# Altium footprint library DBF.PcbLib: 25 footprints (part 1 of 2)
Each footprint in its own frame and in the unit in brackets; x right, y up, seen from the top. Pads: shape width x height; smd on the part's side, far side on the other; paste and mask are expansions set on the pad; w line width, h text height; cw(c..) or ccw(c..) is an arc to the next point about the centre after c.
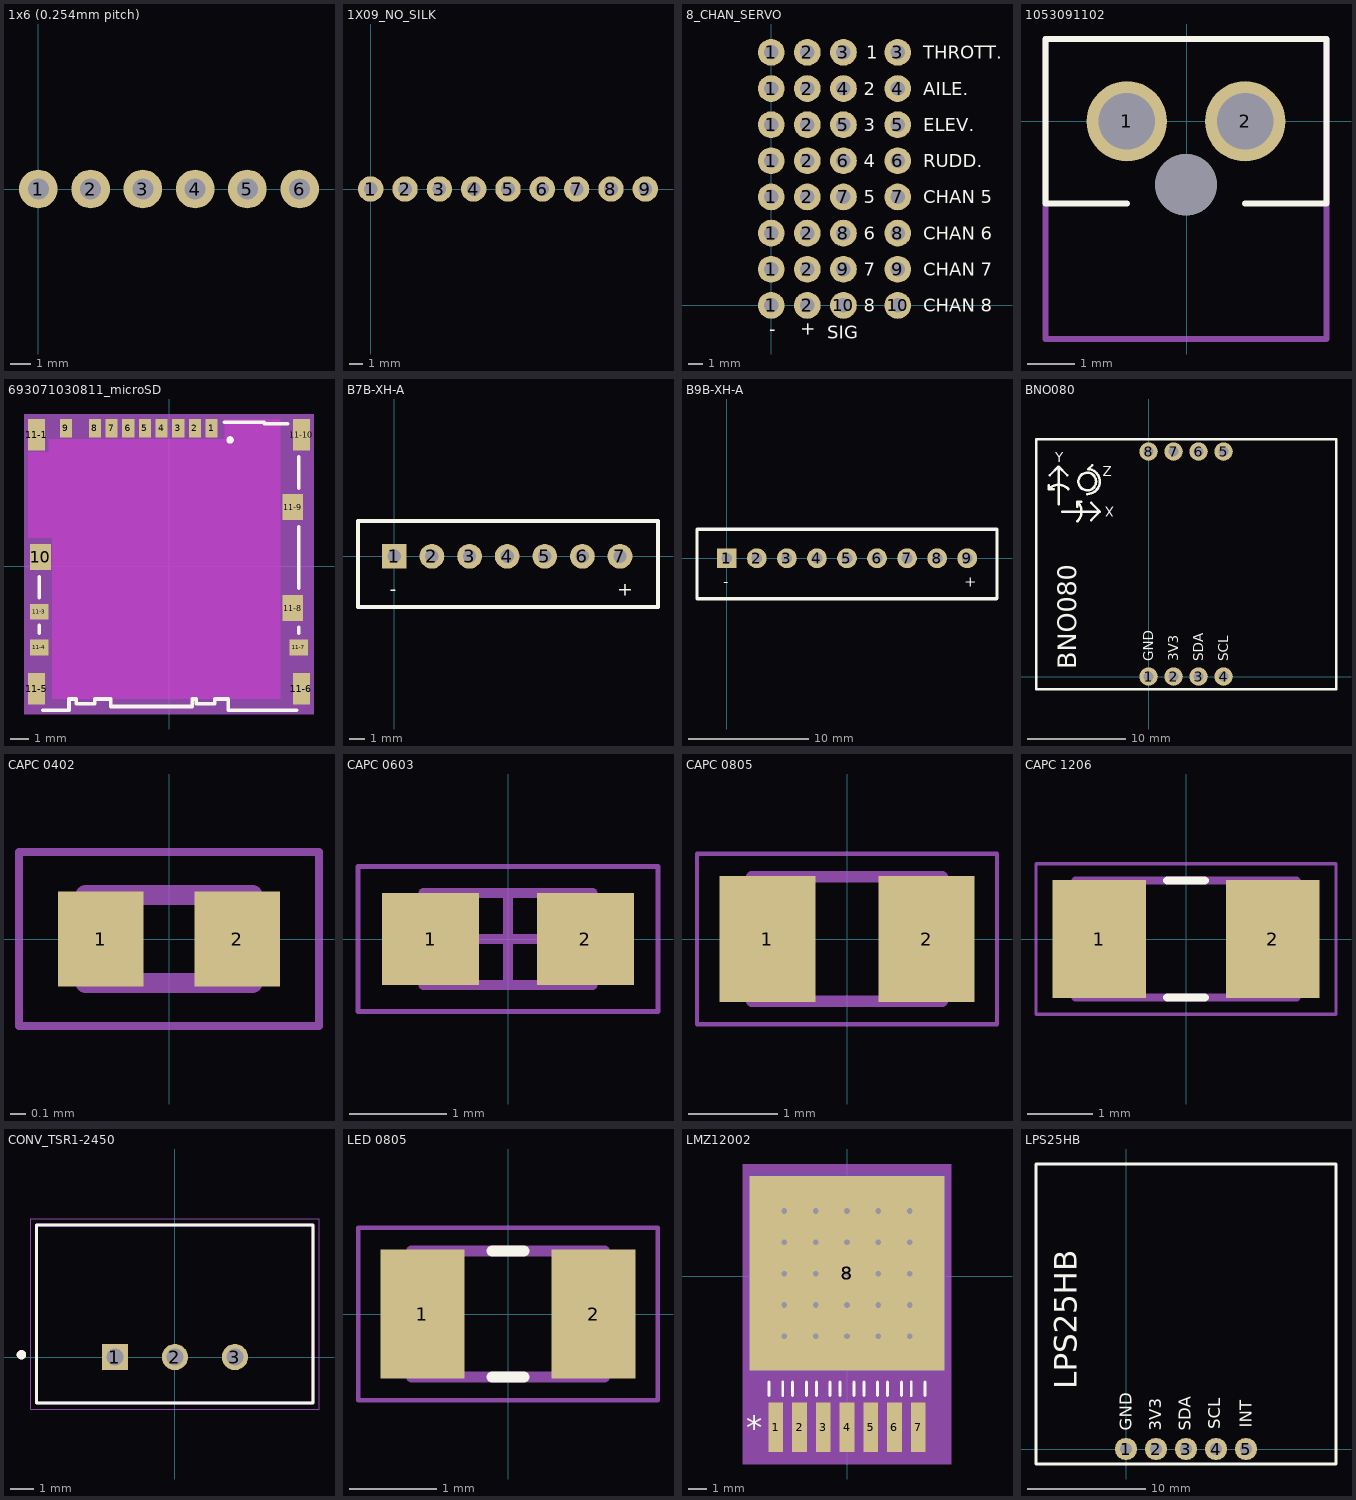
[diagram p0: the footprints below, top view; thin cyan lines are the x and y axes]

## 1x6 (0.254mm pitch) [mil]
pads (6):
  round 74 hole 40: 1(0,0) 2(100,0) 3(200,0) 4(300,0) 5(400,0) 6(500,0)

## 1X09_NO_SILK [mil]
pads (9):
  round 74 hole 40: 1(0,0) 2(100,0) 3(200,0) 4(300,0) 5(400,0) 6(500,0) 7(600,0) 8(700,0) 9(800,0)
Mechanical 3:
  region: 690,-10 690,10 710,10 710,-10
  region: -10,-10 -10,10 10,10 10,-10
  region: 90,-10 90,10 110,10 110,-10
  region: 190,-10 190,10 210,10 210,-10
  region: 290,-10 290,10 310,10 310,-10
  region: 390,-10 390,10 410,10 410,-10
  region: 490,-10 490,10 510,10 510,-10
  region: 590,-10 590,10 610,10 610,-10
3D body "9-Pin Header - Female - 2.54mm.step": height 196.85, standoff -118.11, extent -59.84,-49.21 859.85,49.22

## 8_CHAN_SERVO [mil]
pads (32):
  round 74 hole 40: 1(0,0) 1(0,100) 1(0,200) 1(0,300) 1(0,400) 1(0,500) 1(0,600) 1(0,700) 2(100,0) 2(100,100) 2(100,200) 2(100,300) 2(100,400) 2(100,500) 2(100,600) 2(100,700) 3(200,700) 3(350,700) 4(200,600) 4(350,600) 5(200,500) 5(350,500) 6(200,400) 6(350,400) 7(200,300) 7(350,300) 8(200,200) 8(350,200) 9(200,100) 9(350,100) 10(200,0) 10(350,0)
Top Overlay:
  text "+" at 117.99,-87 h36
  text "-" at 12,-57.01 h36
  text "SIG" at 155.01,-92.99 h36
  text "1" at 262.75,682.01 h36
  text "2" at 256.75,582.01 h36
  text "3" at 256.75,482.01 h36
  text "4" at 256.75,382.01 h36
  text "5" at 256.75,282.01 h36
  text "6" at 256.75,182.01 h36
  text "7" at 256.75,82.01 h36
  text "8" at 256.75,-17.99 h36
  text "THROTT." at 420.5,682.01 h36
  text "AILE." at 420.5,582.01 h36
  text "ELEV." at 420.5,482.01 h36
  text "RUDD." at 420.5,382.01 h36
  text "CHAN 5" at 420.5,282.01 h36
  text "CHAN 6" at 420.5,182.01 h36
  text "CHAN 7" at 420.5,82.01 h36
  text "CHAN 8" at 420.5,-17.99 h36
3D body "3x8 Male Pin Header Angle.STEP": height 297.64, standoff -115.75, extent -474.11,-50 212.5,750.2
3D body "1x8 Male Pin Header.STEP": height 414.96, standoff -118.11, extent 300.79,-49.99 399.21,750.21

## 1053091102 [mm] "Manufac. No. 1053091102"
pads (3):
  round 1.7 hole 1.2 mask+0.051: 1(-1.27,0) 2(1.23,0)
  round 1.3 hole 1.3 unplated mask+0.051: ""(-0.02,-1.34)
Top Overlay:
  lines w0.127: -1.27,-1.74 -2.99,-1.74 -2.99,1.74 2.95,1.74 2.95,-1.74 1.23,-1.74
Mechanical 13:
  lines w0.127: -2.99,-4.6 2.95,-4.6 2.95,1.74 -2.99,1.74 -2.99,-4.6
3D body "1053091202.stp": height 10.56, standoff -3.15, extent -2.97,-4.6 2.97,1.74

## 693071030811_microSD [mm]
pads (19):
  rect 0.65x1 smd: 1(2.3,7.445) 2(1.4,7.445) 3(0.5,7.445) 4(-0.4,7.445) 5(-1.3,7.445) 6(-2.2,7.445) 7(-3.1,7.445) 8(-4,7.445) 9(-5.57,7.445)
  rect 1.13x1.4 smd: 10(-6.935,0.495) 11-8(6.68,-2.255) 11-9(6.68,3.195)
  rect 0.9x1.7 smd: 11-1(-7.15,7.095) 11-5(-7.15,-6.605) 11-6(7.15,-6.605) 11-10(7.15,7.095)
  rect 1x0.85 smd: 11-3(-7,-2.455) 11-4(-7,-4.385) 11-7(7,-4.385)
Top Overlay:
  circle w0.2: c3.3,6.815 r0.1
  lines w0.2: -7,-3.6 -7,-3.2 ; -7,-1.685 -7,-0.585 ; -6.8,-7.775 -5.4,-7.775 -5.4,-7.165 -5,-7.165 -5,-7.425 -4,-7.425 -4,-7.165 -3.15,-7.165 -3.15,-7.565 1.25,-7.565 1.25,-7.165 1.47,-7.165 1.47,-7.425 2.47,-7.425 2.47,-7.165 3.19,-7.165 3.19,-7.775 6.9,-7.775 ; 3,7.775 5.14,7.775 5.14,7.685 6.4,7.685 ; 7,-3.6 7,-3.3 ; 7,-1.185 7,2.115 ; 7,4.215 7,5.915
Keep-Out Layer:
  region: 6,-7.155 -6.3,-7.155 -6.3,1.545 -7.6,1.545 -7.6,6.145 -6.5,6.145 -6.5,6.845 3,6.845 3,7.945 6,7.945
Mechanical 13:
  lines w0.1: -6.9,-7.675 -6.9,7.675 -4.5,7.675 -4.5,7.365 2.78,7.365 2.78,7.675 5.04,7.675 5.04,7.585 6.9,7.585 6.9,-7.675 3.29,-7.675 3.29,-7.065 2.37,-7.065 2.37,-7.325 1.57,-7.325 1.57,-7.065 1.15,-7.065 1.15,-7.465 -3.05,-7.465 -3.05,-7.065 -4.1,-7.065 -4.1,-7.325 -4.9,-7.325 -4.9,-7.065 -5.5,-7.065 -5.5,-7.675 -6.9,-7.675
  text "Prohibited Area" at -3,-0.385 h0.61
Mechanical 15:
  region: 7.8,-7.975 -7.8,-7.975 -7.8,8.215 7.8,8.215
3D body "693071030811_microSD.stp": height 1.25, standoff -0.05, extent -7.336,-7.55 7.384,7.8

## B7B-XH-A [mil] "6s balance lead connector"
pads (7):
  rect 64.75x64.75 hole 35 square mask+4: 1(0,0)
  round 64.75 hole 35 square: 2(98.43,0) 3(196.85,0) 4(295.28,0) 5(393.7,0) 6(492.13,0) 7(590.55,0)
Top Overlay:
  lines w10: -95,-132.5 -95,92.5 690,92.5 690,-132.5 -95,-132.5
  text "-" at -12,-102.99 h36
  text "+" at 583,-102.99 h36
3D body "B7B-XH-A.STEP": height 275.59, standoff -133.86, extent -95,-133.19 688.46,93.19

## B9B-XH-A [mil]
pads (9):
  rect 64.75x64.75 hole 35 square: 1(0,0)
  round 64.75 hole 35 square: 2(98.42,0) 3(196.85,0) 4(295.27,0) 5(393.7,0) 6(492.12,0) 7(590.55,0) 8(688.98,0) 9(787.4,0)
Top Overlay:
  lines w10: 882.5,-132.5 -97.5,-132.5 -97.5,95 885,95 885,-131.2 883.72,-132.49 882.51,-132.49 ; 882.5,-132.5 882.51,-132.49
  text "-" at -12,-92.99 h36
  text "+" at 778,-92.99 h36
3D body "B9B-XH-A.STEP": height 276.28, standoff -133.17, extent -96.46,-132.87 883.86,93.5

## BNO080 [mil]
pads (8):
  round 74 hole 40: 1(0,0) 2(100,0) 3(200,0) 4(300,0) 5(300,900) 6(200,900) 7(100,900) 8(0,900)
Top Overlay:
  circle w10: c-245,780 r35.36
  lines w10: -400,765 -400,750 ; -395,805 -360,840 ; -360,690 -360,840 ; -345,660 -195,660 ; -320,750 ccw(c-360,710) -400,750 ; -285,620 ccw(c-325,660) -285,700 ; -270,700 -285,700 ; -245,730 ccw(c-245,780) -240.85,829.83 ; -230,695 -195,660 ; -400,750 -380,750 -400,750 ; -400,750 -400,750 ; -360,840 -325,805 -360,840 ; -285,700 -285,680 -285,700 ; -285,700 -285,700 ; -240.85,829.83 -240.17,829.83 ; -240.85,829.83 -240.17,829.83 ; -240.17,829.83 -225,845 -240.17,829.83 ; -195,660 -230,625 -195,660 ; -450,-50 -450,950 750,950 750,-50 0,-50 -450,-50
  text "GND" at 19.08,61.89 h40
  text "3V3" at 118.89,61.5 h40
  text "SDA" at 218.69,61.5 h40
  text "SCL" at 318.5,61.5 h40
  text "X" at -136.5,678.5 h40
  text "Y" at -373.5,856.5 h40
  text "Z" at -183.5,801.5 h40
  text "BNO080" at -290,30 h75

## CAPC 0402 [mm]
pads (2):
  rect 0.54x0.6 smd: 1(-0.432,0) 2(0.432,0)
Mechanical 13:
  lines w0.127: -0.53,-0.28 -0.53,0.28 0.53,0.28 0.53,-0.28 -0.53,-0.28
Mechanical 15:
  lines w0.05: -0.95,-0.55 -0.95,0.55 0.95,0.55 0.95,-0.55 -0.95,-0.55
3D body "GRM1555C1H102JA01J.STEP": height 0.5, standoff 0, extent -0.5,-0.274 0.5,0.276

## CAPC 0603 [mm] "Chip Capacitor, 2-Leads, Body 1.60x0.80mm, IPC Medium Density"
height 0.8
pads (2):
  rect 1x0.95 smd: 1(-0.8,0) 2(0.8,0)
Mechanical 13:
  lines w0.1: -0.875,-0.475 -0.875,0.475 0.875,0.475 0.875,-0.475 -0.875,-0.475
Mechanical 15:
  lines w0.05: -1.55,-0.75 -1.55,0.75 1.55,0.75 1.55,-0.75 -1.55,-0.75
  lines w0.1: -0.475,0 0.475,0 ; 0,-0.475 0,0.475
3D body: height 0.8, standoff 0, extent -0.525,-0.475 0.525,0.475
3D body: height 0.8, standoff 0, extent -0.875,-0.475 -0.525,0.475
3D body: height 0.8, standoff 0, extent 0.525,-0.475 0.875,0.475

## CAPC 0805 [mm]
pads (2):
  rect 1.08x1.42 smd: 1(-0.895,0) 2(0.895,0)
Mechanical 13:
  lines w0.127: -1.07,-0.7 -1.07,0.7 1.07,0.7 1.07,-0.7 -1.07,-0.7
Mechanical 15:
  lines w0.05: -1.685,-0.96 -1.685,0.96 1.685,0.96 1.685,-0.96 -1.685,-0.96
3D body "GRM21BR61E106MA73L.STEP": height -0.39, standoff -1.64, extent -1.005,-0.701 0.995,0.699

## CAPC 1206 [mm]
pads (2):
  rect 1.44x1.82 smd: 1(-1.336,0) 2(1.336,0)
Top Overlay:
  lines w0.127: -0.29,-0.9 0.29,-0.9 ; -0.29,0.9 0.29,0.9
Mechanical 13:
  lines w0.127: -1.7,-0.9 -1.7,0.9 1.7,0.9 1.7,-0.9 -1.7,-0.9
Mechanical 15:
  lines w0.05: -2.308,-1.158 -2.308,1.158 2.308,1.158 2.308,-1.158 -2.308,-1.158
3D body "C3216X5R1A107M160AC.STEP": height 1.59, standoff -0.01, extent -1.625,-0.899 1.575,0.901

## CONV_TSR1-2450 [mm]
pads (3):
  rect 1.11x1.11 hole 0.71: 1(-2.54,0)
  round 1.11 hole 0.71: 2(0,0) 3(2.54,0)
Top Overlay:
  circle w0.2: c-6.5,0.1 r0.1
  lines w0.127: -5.85,-1.95 5.85,-1.95 5.85,5.6 -5.85,5.6 -5.85,-1.95
Mechanical 13:
  circle w0.2: c-6.5,0.1 r0.1
  lines w0.127: -5.85,-1.95 5.85,-1.95 5.85,5.6 -5.85,5.6 -5.85,-1.95
Mechanical 15:
  lines w0.05: -6.1,-2.2 -6.1,5.85 6.1,5.85 6.1,-2.2 -6.1,-2.2
3D body "TSR 1-2450.STEP": height 10.13, standoff -4.07, extent -5.85,-1.972 5.85,5.528

## LED 0805 [mm]
pads (2):
  rect 0.96x1.47 smd: 1(-0.978,0) 2(0.978,0)
Top Overlay:
  lines w0.127: -0.18,-0.72 0.18,-0.72 ; -0.18,0.72 0.18,0.72
Mechanical 13:
  lines w0.127: -1.1,-0.72 -1.1,0.72 1.1,0.72 1.1,-0.72 -1.1,-0.72
Mechanical 15:
  lines w0.05: -1.708,-0.983 -1.708,0.983 1.708,0.983 1.708,-0.983 -1.708,-0.983
3D body "150080AS75000_Download_STP_WL-SMCW-0805_rev1.stp": height 0.7, standoff 0, extent -1,-0.625 1,0.625

## LMZ12002 [mil]
pads (10):
  rect 31x105 smd: 1(-150,-318.5) 2(-100,-318.5) 3(-50,-318.5) 4(0,-318.5) 5(50,-318.5) 6(100,-318.5) 7(150,-318.5)
  rect 410x410 smd: 8(0,6) 8(0,6)
  rect 410x410 smd far side: 8(0,6)
via 132,137 diameter 24 hole 12
via 66,137 diameter 24 hole 12
via 0,137 diameter 24 hole 12
via -66,137 diameter 24 hole 12
via -132,137 diameter 24 hole 12
via 132,71 diameter 24 hole 12
via 66,71 diameter 24 hole 12
via 0,71 diameter 24 hole 12
via -66,71 diameter 24 hole 12
via -132,71 diameter 24 hole 12
via 132,5 diameter 24 hole 12
via 66,5 diameter 24 hole 12
via 0,5 diameter 24 hole 12
via -66,5 diameter 24 hole 12
via -132,5 diameter 24 hole 12
via 132,-61 diameter 24 hole 12
via 66,-61 diameter 24 hole 12
via 0,-61 diameter 24 hole 12
via -66,-61 diameter 24 hole 12
via -132,-61 diameter 24 hole 12
via 132,-127 diameter 24 hole 12
via 66,-127 diameter 24 hole 12
via 0,-127 diameter 24 hole 12
via -66,-127 diameter 24 hole 12
via -132,-127 diameter 24 hole 12
Top Overlay:
  lines w6: -164.5,-252 -164.5,-223 ; -135.5,-252 -135.5,-223 ; -114.5,-252 -114.5,-223 ; -85.5,-252 -85.5,-223 ; -64.5,-252 -64.5,-223 ; -35.5,-252 -35.5,-223 ; -14.5,-252 -14.5,-223 ; 14.5,-252 14.5,-223 ; 35.5,-252 35.5,-223 ; 64.5,-252 64.5,-223 ; 85.5,-252 85.5,-223 ; 114.5,-252 114.5,-223 ; 135.5,-252 135.5,-223 ; 164.5,-252 164.5,-223
  text "*" at -212.5,-343.5 h50
Mechanical 5:
  region: -220,236 220,236 220,-396 -220,-396
Mechanical 13:
  lines w1: -205,-199 -205,199 205,199 205,-199 -205,-199 ; -164.5,-357 -135.5,-357 -135.5,-199 -164.5,-199 -164.5,-357 ; -114.5,-357 -85.5,-357 -85.5,-199 -114.5,-199 -114.5,-357 ; -64.5,-357 -35.5,-357 -35.5,-199 -64.5,-199 -64.5,-357 ; -14.5,-357 14.5,-357 14.5,-199 -14.5,-199 -14.5,-357 ; 35.5,-357 64.5,-357 64.5,-199 35.5,-199 35.5,-357 ; 85.5,-357 114.5,-357 114.5,-199 85.5,-199 85.5,-357 ; 135.5,-357 164.5,-357 164.5,-199 135.5,-199 135.5,-357
  text "*" at -212.5,-343.5 h50
Mechanical 15:
  region: 215,-381 -215,-381 -215,221 215,221
  lines w6: -215,-381 215,-381 215,221 -215,221 -215,-381
3D body: height 10, standoff 0, extent 0,0 10,10
3D body "LMZ12002.stp": height 186.17, standoff -1.62, extent -200,-348.22 200,193.9

## LPS25HB [mil]
pads (5):
  round 74 hole 40: 1(0,0) 2(100,0) 3(200,0) 4(300,0) 5(400,0)
Top Overlay:
  lines w10: -300,-50 -300,950 700,950 700,-50 0,-50 -300,-50
  text "GND" at 18.5,61.5 h40
  text "3V3" at 116.83,61.5 h40
  text "SDA" at 215.17,61.5 h40
  text "SCL" at 313.5,66.5 h40
  text "LPS25HB" at -165,200 h75
  text "INT" at 418.5,71.5 h40